# Altium footprint library drewsparts.PcbLib: 10 footprints
Each footprint in its own frame and in the unit in brackets; x right, y up, seen from the top. Pads: shape width x height; smd on the part's side, far side on the other; paste and mask are expansions set on the pad; w line width, h text height; cw(c..) or ccw(c..) is an arc to the next point about the centre after c.
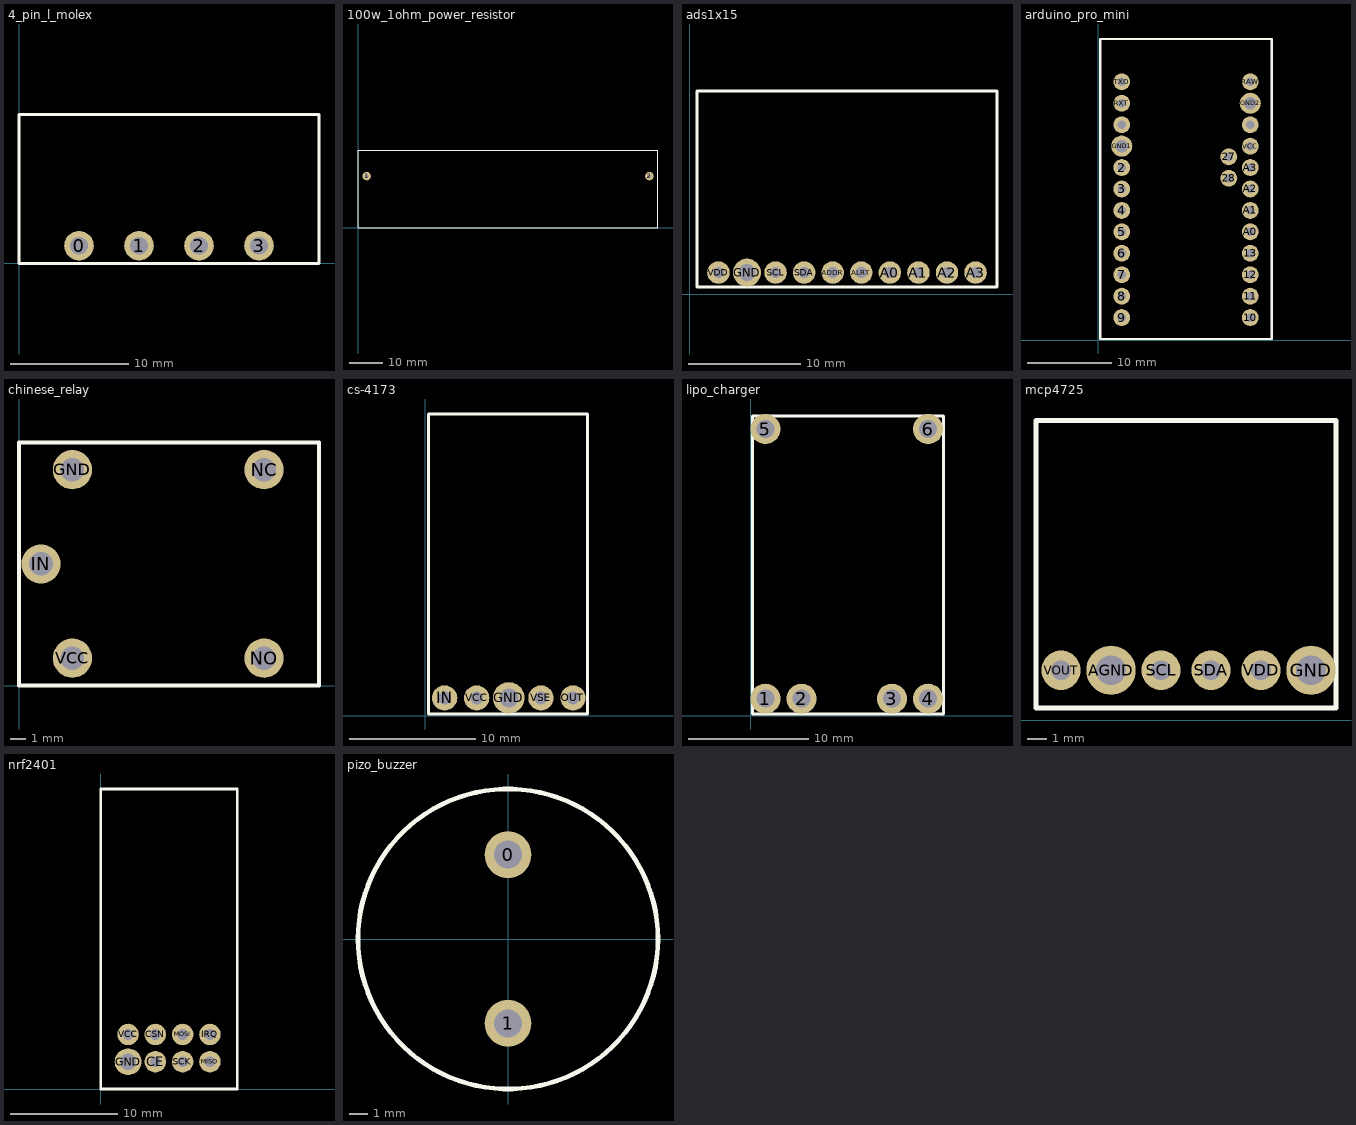
[diagram p0: the footprints below, top view; thin cyan lines are the x and y axes]

## 4_pin_l_molex [mm]
height 9
pads (4):
  round 2.5 hole 1.5: 0(5.08,1.5) 1(10.16,1.5) 2(15.24,1.5) 3(20.32,1.5)
Top Overlay:
  lines w0.254: 0,0 25.4,0 25.4,12.598 0,12.598 0,0

## 100w_1ohm_power_resistor [mm]
pads (2):
  round 2.5 hole 1: 1(2.54,15.24) 2(86.36,15.24)
Top Overlay:
  lines w0.254: 0,0 88.9,0 88.9,22.86 0,22.86 0,0

## ads1x15 [mm]
pads (10):
  round 2 hole 1: A0(17.78,1.905) A1(20.32,1.905) A2(22.86,1.905) A3(25.4,1.905) ADDR(12.7,1.905) ALRT(15.24,1.905) SCL(7.62,1.905) SDA(10.16,1.905) VDD(2.54,1.905)
  round 2.5 hole 1.5: GND(5.08,1.905)
Top Overlay:
  lines w0.254: 0.635,18 0.635,0.635 27.305,0.635 27.305,18 ; 0.635,18.034 27.305,18.034

## arduino_pro_mini [mm]
pads (26):
  round 2 hole 1: 2(2.794,20.447) 3(2.794,17.907) 4(2.794,15.367) 5(2.794,12.827) 6(2.794,10.287) 7(2.794,7.747) 8(2.794,5.207) 9(2.794,2.667) 10(18.034,2.667) 11(18.034,5.207) 12(18.034,7.747) 13(18.034,10.287) 27(15.494,21.717) 28(15.494,19.177) A0(18.034,12.827) A1(18.034,15.367) A2(18.034,17.907) A3(18.034,20.447) RAW(18.034,30.607) RST1(2.794,25.527) RST2(18.034,25.527) RXT(2.794,28.067) TXO(2.794,30.607) VCC(18.034,22.987)
  round 2.5 hole 1.5: GND1(2.794,22.987) GND2(18.034,28.067)
Top Overlay:
  lines w0.254: 0.254,0.127 0.254,35.687 20.574,35.687 20.574,0.127 0.254,0.127

## chinese_relay [mm]
height 16
pads (5):
  round 2.5 hole 1.5: GND(3.4,13.75) IN(1.4,7.75) NC(15.6,13.75) NO(15.6,1.75) VCC(3.4,1.75)
Top Overlay:
  lines w0.254: 0,0 19.1,0 19.1,15.494 0,15.494 0,0

## cs-4173 [mm]
pads (5):
  round 2.5 hole 1.5: GND(6.604,1.397)
  round 2 hole 1: IN(1.524,1.397) OUT(11.684,1.397) VCC(4.064,1.397) VSE(9.144,1.397)
Top Overlay:
  lines w0.254: 0.254,0.127 0.254,23.876 12.827,23.876 12.827,0.127 0.254,0.127

## lipo_charger [mm]
pads (6):
  round 2.5 hole 1.5: 1(1.197,1.397) 2(4.197,1.397) 3(11.709,1.397) 4(14.709,1.397) 5(1.197,23.797) 6(14.709,23.797)
Top Overlay:
  lines w0.254: 0.127,0.127 0.127,24.892 16.002,24.892 16.002,0.127 0.127,0.127

## mcp4725 [mm]
pads (6):
  round 2.5 hole 1.5: AGND(5.08,2.54) GND(15.24,2.54)
  round 2 hole 1: SCL(7.62,2.54) SDA(10.16,2.54) VDD(12.7,2.54) VOUT(2.54,2.54)
Top Overlay:
  lines w0.254: 1.27,15.2 1.27,0.635 16.51,0.635 16.51,15.24 1.27,15.24

## nrf2401 [mm]
pads (8):
  round 2 hole 1: CE(5.08,2.54) CSN(5.08,5.08) IRQ(10.16,5.08) MISO(10.16,2.54) MOSI(7.62,5.08) SCK(7.62,2.54) VCC(2.54,5.08)
  round 2.5 hole 1.5: GND(2.54,2.54)
Top Overlay:
  lines w0.254: 0,0 12.7,0 12.7,27.94 0,27.94 0,0

## pizo_buzzer [mm]
height 16
pads (2):
  round 2.5 hole 1.5: 0(0,4.5) 1(0,-4.5)
Top Overlay:
  circle w0.254: c0,0 r8